# EAGLE library part PCF8563TS_4,118 (library PCF8563TS_4_118)
Real Time Clock ULTRA LOW PWR CLOCK RTC IC Source: Datasheet <http://www.nxp.com/docs/en/data-sheet/PCF8563.pdf>
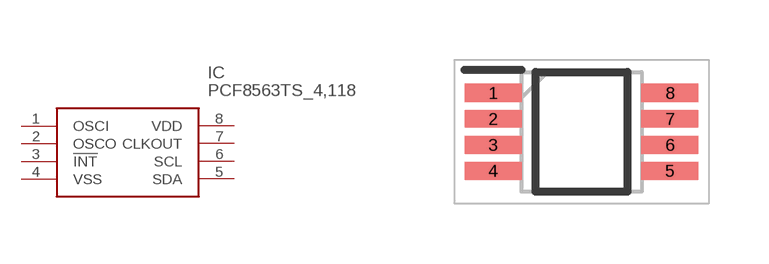
[diagram p0: symbol with the pads of SOP65P490X110-8N; footprint SOP65P490X110-8N]

Designator prefix IC

## PCF8563TS_4,118 (Arrow_Part_Number: PCF8563TS/4,118; Arrow_Price-Stock: https://www.arrow.com/en/products/pcf8563ts4118/nxp-semiconductors?region=nac; Description: Real Time Clock ULTRA LOW PWR CLOCK RTC IC; Height: 1.1mm; Manufacturer_Name: NXP; Manufacturer_Part_Number: PCF8563TS/4,118; Mouser_Part_Number: 771-PCF8563TS-T; Mouser_Price-Stock: https://www.mouser.co.uk/ProductDetail/NXP-Semiconductors/PCF8563TS-4118?qs=LOCUfHb8d9ugg%2FdJSyv6Ig%3D%3D)  [SOP65P490X110-8N]
1  OSCI
2  OSCO
3  !INT
4  VSS
5  SDA
6  SCL
7  CLKOUT
8  VDD

## Footprint SOP65P490X110-8N (pad centres in mm)
TSSOP8
smd 1.425 x 0.45: 1 -2.212,0.975; 2 -2.212,0.325; 3 -2.212,-0.325; 4 -2.212,-0.975; 5 2.212,-0.975; 6 2.212,-0.325; 7 2.212,0.325; 8 2.212,0.975